# Altium footprint library Passive_Component.PcbLib: 6 footprints
Each footprint in its own frame and in the unit in brackets; x right, y up, seen from the top. Pads: shape width x height; smd on the part's side, far side on the other; paste and mask are expansions set on the pad; w line width, h text height; cw(c..) or ccw(c..) is an arc to the next point about the centre after c.
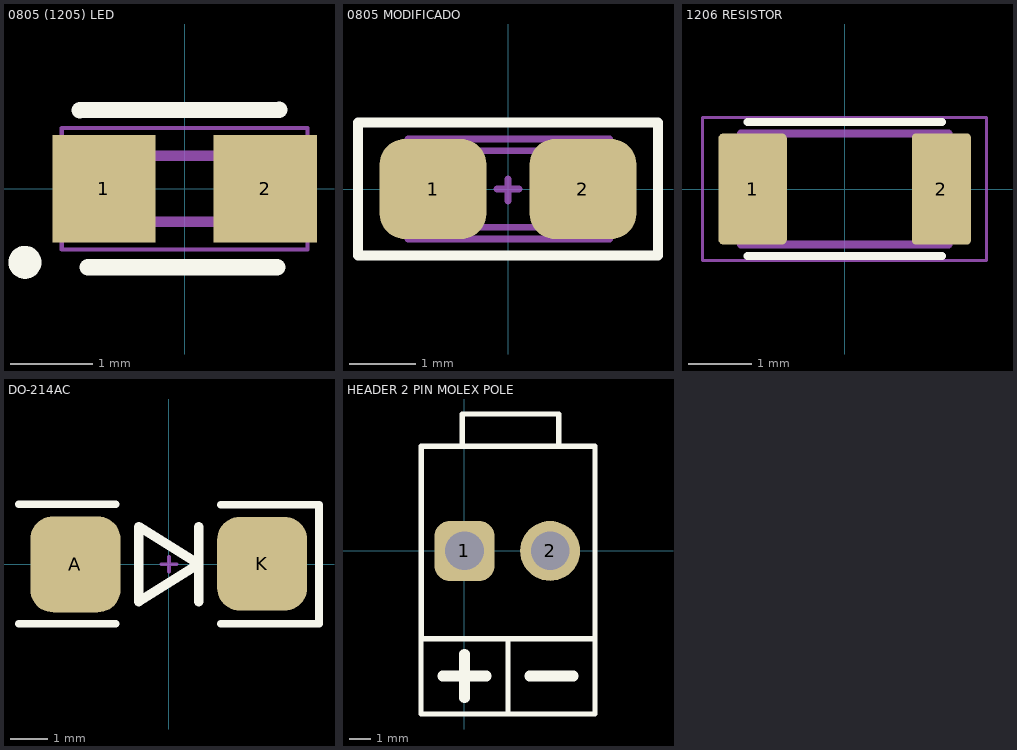
[diagram p0: the footprints below, top view; thin cyan lines are the x and y axes]

## 0805 (1205) LED [mm]
pads (2):
  rect 1.25x1.3 smd: 1(-0.975,0) 2(0.975,0)
Top Overlay:
  circle w0.254: c-1.93,-0.889 r0.072
  lines w0.199: -1.27,0.95 1.143,0.956 ; -1.168,-0.95 1.118,-0.95
Mechanical 13:
  lines w0.127: -0.8,-0.4 0.8,-0.4 0.8,0.4 -0.8,0.4 -0.8,-0.4
Mechanical 15:
  lines w0.05: -1.485,-0.735 1.485,-0.735 1.485,0.735 -1.485,0.735 -1.485,-0.735
3D body "SML-LXT0805IW-TR--3DModel-STEP-269445.STEP": height 0.9, standoff 0, extent -1,-0.65 1,0.65

## 0805 MODIFICADO [mm] "Chip Resistor, Empaque 0805"
height 0.3
pads (2):
  rrect50% 1.6x1.5 smd: 1(-1.125,0) 2(1.125,0)
Top Overlay:
  lines w0.15: -2.25,-1 -2.25,1 2.25,1 2.25,-1 -2.25,-1
Mechanical 1:
  text ".Designator" at -7.618,-0.508 h1.52
Mechanical 13:
  lines w0.1: -1,-0.575 -1,0.575 1,0.575 1,-0.575 -1,-0.575
Mechanical 15:
  lines w0.1: -0.165,0 0.165,0 ; 0,-0.18 0,0.15 ; -1.5,-0.75 -1.5,0.75 1.525,0.75 1.525,-0.75 -1.5,-0.75
3D body "0805 SMD Resistor.STEP": height 0.78, standoff 0, extent -1,-0.625 1,0.625

## 1206 RESISTOR [mm]
pads (2):
  rrect14% 1.09x1.77 smd: 1(-1.465,0)
  rrect14% 0.94x1.77 smd: 2(1.54,0)
Top Overlay:
  lines w0.127: -1.55,-1.065 1.55,-1.065 ; -1.55,1.065 1.55,1.065
Mechanical 13:
  lines w0.127: -1.65,-0.88 -1.65,0.88 1.65,0.88 1.65,-0.88 -1.65,-0.88
Mechanical 15:
  lines w0.05: -2.26,-1.14 -2.26,1.14 2.26,1.14 2.26,-1.14 -2.26,-1.14
3D body "1623457-1.stp": height 0.28, standoff -0.28, extent -1.55,-0.775 1.55,0.775

## DO-214AC [mm]
pads (2):
  rrect50% 2.4x2.56 smd: A(-2.488,-0.008)
  rrect50% 2.4x2.5 smd: K(2.488,0.008)
Top Overlay:
  lines w0.2: -3.992,-1.591 -1.414,-1.591 ; -3.992,1.595 -1.414,1.595 ; 1.39,-1.591 4.003,-1.591 4.003,1.578 1.39,1.578
  lines w0.254: 0.8,-1 0.8,1 ; -0.8,-1 0.8,0 -0.8,1 -0.8,-1
Mechanical 1:
  lines w0.1: -0.196,-0.007 0.204,-0.007 ; 0.004,-0.207 0.004,0.193
  text ".Designator" at -7.612,-0.506 h1.52
3D body "SW3dPS-DO-214AC SMA.STEP": height -1, standoff -3.4, extent -2.536,-1.316 2.664,1.284

## HEADER 2 PIN MOLEX POLE [mm]
pads (2):
  rrect50% 2.8x2.8 hole 1.8: 1(0,0)
  round 2.8 hole 1.8: 2(4,0)
Top Overlay:
  lines w0.254: -0.1,4.9 -0.1,6.4 4.4,6.4 4.4,4.9 ; 2.033,-7.62 2.033,-4.108 2.034,-4.108 ; -2.03,-4.108 -2.032,-4.108 -2.032,-7.62 6.098,-7.62 6.098,-4.108 ; -2.03,-4.108 6.098,-4.108 ; -2.03,-4.108 -2.03,4.9 6.098,4.9 6.098,-4.108
  lines w0.5: -1.016,-5.842 1.016,-5.842 ; 0,-6.858 0,-6.604 0,-4.826 ; 3.048,-5.842 5.08,-5.842
3D body "connector 2 pin (male).STEP": height 14.4, standoff -3.6, extent -1.9,-3.95 5.9,5.55

## PCBComponent_1 [mm]